# Altium footprint library SRP7028A.PcbLib: 1 footprints
Each footprint in its own frame and in the unit in brackets; x right, y up, seen from the top. Pads: shape width x height; smd on the part's side, far side on the other; paste and mask are expansions set on the pad; w line width, h text height; cw(c..) or ccw(c..) is an arc to the next point about the centre after c.
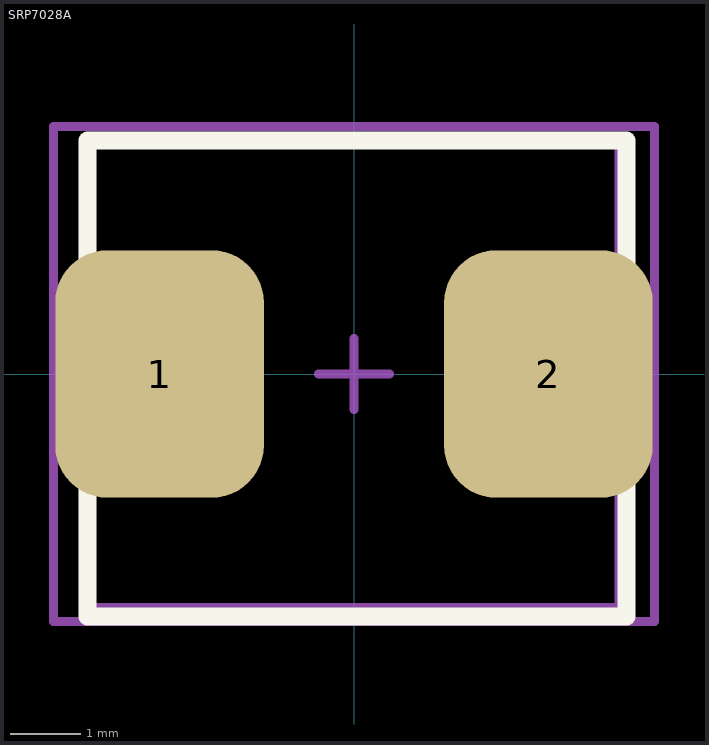
[diagram p0: the footprint, top view; thin cyan lines are the x and y axes]

## SRP7028A [mm]
pads (2):
  rrect50% 2.95x3.5 smd: 1(-2.75,0) 2(2.75,0)
Top Overlay:
  lines w0.254: -3.766,-3.429 3.854,-3.429 3.854,-0.296 3.854,3.302 -3.766,3.302 -3.766,0.384 -3.766,-3.429
Top Assembly:
  lines w0.127: -3.75,-3.3 -3.75,3.3 3.75,3.3 3.75,-3.3 -3.75,-3.3
Top Courtyard:
  lines w0.127: -0.5,0 0.5,0 ; 0,-0.5 0,0.5 ; -4.25,-3.5 -4.25,3.5 4.25,3.5 4.25,-3.5 -4.25,-3.5
3D body "srp7028A.stp": height 2.9, standoff 0, extent -3.706,-3.3 3.794,3.3